# Altium footprint library Power_BJT_MOS_PcbLib.PcbLib: 24 footprints (part 1 of 2)
Each footprint in its own frame and in the unit in brackets; x right, y up, seen from the top. Pads: shape width x height; smd on the part's side, far side on the other; paste and mask are expansions set on the pad; w line width, h text height; cw(c..) or ccw(c..) is an arc to the next point about the centre after c.
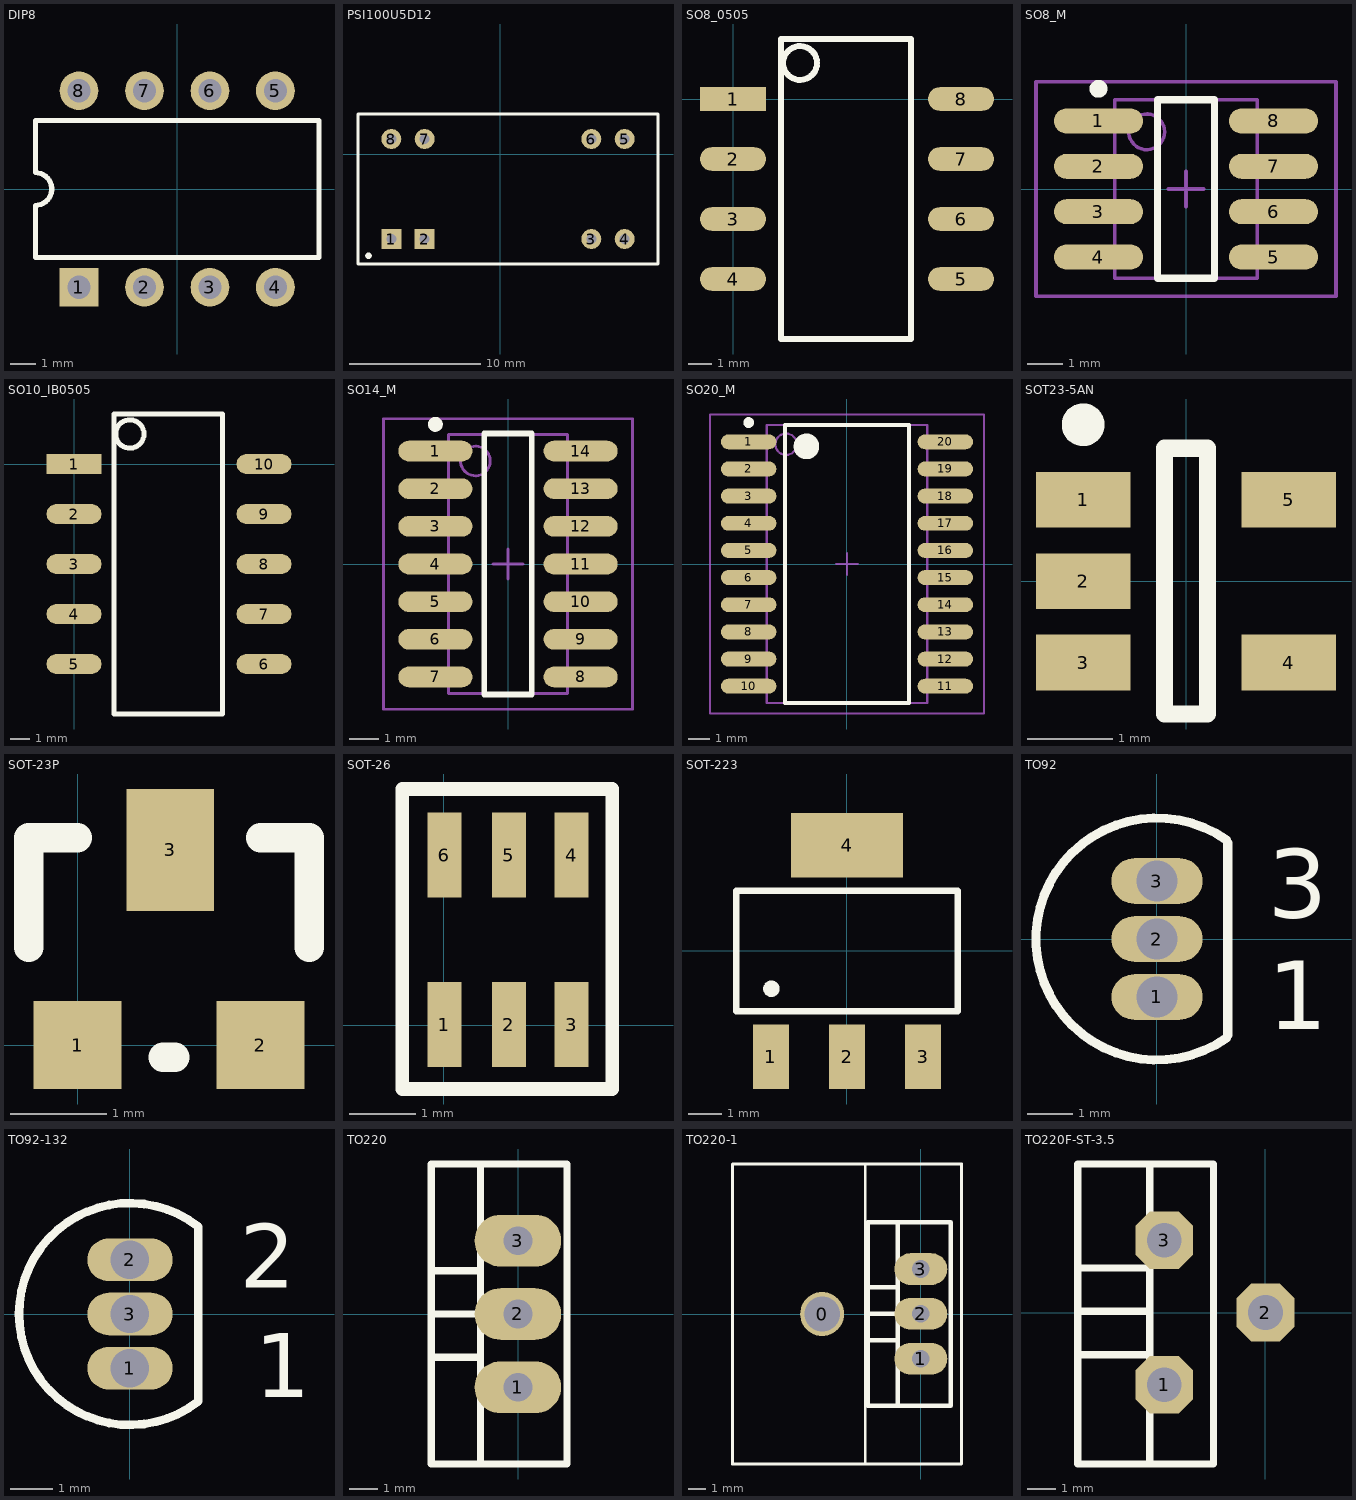
[diagram p0: the footprints below, top view; thin cyan lines are the x and y axes]

## DIP8 [mm] "DIP; 8 Leads; Row Spacing 7.62 mm; Pitch 2.54 mm"
height 5.08
pads (8):
  rect 1.5x1.5 hole 0.9: 1(-3.81,-3.81)
  round 1.5 hole 0.9: 2(-1.27,-3.81) 3(1.27,-3.81) 4(3.81,-3.81) 5(3.81,3.81) 6(1.27,3.81) 7(-1.27,3.81) 8(-3.81,3.81)
Top Overlay:
  lines w0.2: -5.5,-2.65 5.5,-2.65 5.5,2.65 -5.5,2.65 -5.5,0.635 cw(c-5.5,0) -5.5,-0.635 -5.5,-2.65

## PSI100U5D12 [mil]
pads (8):
  rect 60x60 hole 30: 1(-326.46,-254.66) 2(-226.46,-254.66)
  round 60 hole 30: 3(273.54,-254.66) 4(373.54,-254.66) 5(373.54,45.34) 6(273.54,45.34) 7(-226.46,45.34) 8(-326.46,45.34)
Top Overlay:
  circle w9.84: c-394.92,-305 r4.92
  lines w10: -426.46,-329.66 473.54,-329.66 473.54,120.34 -426.46,120.34 -426.46,-304.66 -426.46,-329.66

## SO8_0505 [mm]
pads (8):
  rect 2.8x1 smd: 1(0,0)
  oval 2.8x1 smd: 2(0,-2.54) 3(0,-5.08) 4(0,-7.62) 5(9.652,-7.62) 6(9.652,-5.08) 7(9.652,-2.54) 8(9.652,0)
Top Overlay:
  circle w0.254: c2.838,1.524 r0.718
  lines w0.254: 2.032,-10.16 7.532,-10.16 7.532,2.54 2.032,2.54 2.032,-10.16

## SO8_M [mm] "SOIC, 8-Leads, Body 4.9x3.9mm, Pitch 1.27mm, IPC Low Density"
height 1.75
pads (8):
  oval 2.5x0.7 smd: 1(-2.45,1.905) 2(-2.45,0.635) 3(-2.45,-0.635) 4(-2.45,-1.905) 5(2.45,-1.905) 6(2.45,-0.635) 7(2.45,0.635) 8(2.45,1.905)
Top Overlay:
  circle w0.25: c-2.45,2.805 r0.125
  lines w0.2: -0.8,-2.5 -0.8,2.5 0.8,2.5 0.8,-2.5 -0.8,-2.5
Mechanical 13:
  circle w0.1: c-1.1,1.6 r0.5
  lines w0.1: -2,-2.5 -2,2.5 2,2.5 2,-2.5 -2,-2.5
Mechanical 15:
  lines w0.1: -0.5,0 0.5,0 ; 0,-0.5 0,0.5 ; -4.2,-3 -4.2,3 4.2,3 4.2,-3 -4.2,-3
3D body: height 1.75, standoff 0, extent -2,-2.5 2,2.5

## SO10_IB0505 [mm]
pads (10):
  rect 2.8x1 smd: 1(0,0)
  oval 2.8x1 smd: 2(0,-2.54) 3(0,-5.08) 4(0,-7.62) 5(0,-10.16) 6(9.652,-10.16) 7(9.652,-7.62) 8(9.652,-5.08) 9(9.652,-2.54) 10(9.652,0)
Top Overlay:
  circle w0.254: c2.838,1.524 r0.718
  lines w0.254: 2.032,-12.7 7.532,-12.7 7.532,2.54 2.032,2.54 2.032,-12.7

## SO14_M [mm] "SOIC, 14-Leads, Body 8.7x3.9mm, Pitch 1.27mm, IPC Low Density"
height 1.75
pads (14):
  oval 2.5x0.7 smd: 1(-2.45,3.81) 2(-2.45,2.54) 3(-2.45,1.27) 4(-2.45,0) 5(-2.45,-1.27) 6(-2.45,-2.54) 7(-2.45,-3.81) 8(2.45,-3.81) 9(2.45,-2.54) 10(2.45,-1.27) 11(2.45,0) 12(2.45,1.27) 13(2.45,2.54) 14(2.45,3.81)
Top Overlay:
  circle w0.25: c-2.45,4.71 r0.125
  lines w0.2: -0.8,-4.4 -0.8,4.4 0.8,4.4 0.8,-4.4 -0.8,-4.4
Mechanical 13:
  circle w0.1: c-1.1,3.475 r0.5
  lines w0.1: -2,-4.375 -2,4.375 2,4.375 2,-4.375 -2,-4.375
Mechanical 15:
  lines w0.1: -0.5,0 0.5,0 ; 0,-0.5 0,0.5 ; -4.2,-4.9 -4.2,4.9 4.2,4.9 4.2,-4.9 -4.2,-4.9
3D body: height 1.75, standoff 0, extent -2,-4.375 2,4.375

## SO20_M [mm] "SOIC, 20-Leads, Body 12.8x7.5mm, Pitch 1.27mm, IPC Low Density"
height 2.65
pads (20):
  oval 2.6x0.7 smd: 1(-4.6,5.715) 2(-4.6,4.445) 3(-4.6,3.175) 4(-4.6,1.905) 5(-4.6,0.635) 6(-4.6,-0.635) 7(-4.6,-1.905) 8(-4.6,-3.175) 9(-4.6,-4.445) 10(-4.6,-5.715) 11(4.6,-5.715) 12(4.6,-4.445) 13(4.6,-3.175) 14(4.6,-1.905) 15(4.6,-0.635) 16(4.6,0.635) 17(4.6,1.905) 18(4.6,3.175) 19(4.6,4.445) 20(4.6,5.715)
Top Overlay:
  circle w0.25: c-4.6,6.615 r0.125
  circle w0.6: c-1.9,5.5 r0.3
  lines w0.2: -2.9,-6.5 -2.9,6.5 2.9,6.5 2.9,-6.5 -2.9,-6.5
Mechanical 13:
  circle w0.1: c-2.85,5.6 r0.5
  lines w0.1: -3.75,-6.5 -3.75,6.5 3.75,6.5 3.75,-6.5 -3.75,-6.5
Mechanical 15:
  lines w0.1: -0.5,0 0.5,0 ; 0,-0.5 0,0.5 ; -6.4,-7 -6.4,7 6.4,7 6.4,-7 -6.4,-7
3D body: height 2.65, standoff 0, extent -3.75,-6.5 3.75,6.5

## SOT23-5AN [mm]
pads (5):
  rect 1.1x0.65 smd: 1(-1.2,0.95) 2(-1.2,0) 3(-1.2,-0.95) 4(1.2,-0.95) 5(1.2,0.95)
Top Overlay:
  circle w0.25: c-1.2,1.825 r0.125
  lines w0.2: -0.25,-1.55 -0.25,1.55 0.25,1.55 0.25,-1.55 -0.25,-1.55

## SOT-23P [mil]
pads (3):
  rect 36x36 smd: 1(0,0) 2(75,0)
  rect 36x50 smd: 3(38,80)
Top Overlay:
  lines w12: -20,40 -20,85 0,85 ; 35,-5 40,-5 ; 75,85 95,85 95,40

## SOT-26 [mil]
pads (6):
  rect 20x50 smd: 1(0.41,0.41) 2(38.41,0.41) 3(75.41,0.41) 4(75.41,100.41) 5(38.41,100.41) 6(0.41,100.41)
Top Overlay:
  lines w8: -24.59,-37.59 99.41,-37.59 99.41,139.41 -24.59,139.41 -24.59,-37.59

## SOT-223 [mm]
pads (4):
  rect 1.1x1.95 smd: 1(-2.298,-3.201) 2(0.002,-3.201) 3(2.302,-3.201)
  rect 3.4x1.95 smd: 4(0.002,3.199)
Top Overlay:
  circle w0.25: c-2.284,-1.143 r0.125
  lines w0.2: -3.348,-1.826 -3.348,1.824 3.352,1.824 3.352,-1.826 -3.348,-1.826

## TO92 [mm] "TO, Flat Index; 3 In-Line, Axial Leads; Body Dia. 4.8mm; Leads 0.51 x 0.51 mm (max)"
height 5.33
pads (3):
  oval 2x1 hole 0.9: 1(0,-1.27) 2(0,0) 3(0,1.27)
Top Overlay:
  lines w0.2: 1.52,-2.171 cw(c0,0) 1.52,2.171 ; 1.55,-2.1 1.55,2.1
  text "3" at 2.421,0.467 h1.5
  text "1" at 2.421,-1.979 h1.5

## TO92-132 [mm] "TO, Flat Index; 3 In-Line, Axial Leads; Body Dia. 4.8mm; Leads 0.51 x 0.51 mm (max)"
height 5.33
pads (3):
  oval 2x1 hole 0.9: 1(0,-1.27) 2(0,1.27) 3(0,0)
Top Overlay:
  lines w0.2: 1.601,-2.049 cw(c0,0) 1.601,2.049 ; 1.6,-1.99 1.6,1.99
  text "1" at 2.93,-1.95 h1.5
  text "2" at 2.57,0.61 h1.5

## TO220 [mm]
pads (3):
  oval 3x1.8 hole 1: 1(-0.003,-2.532) 2(-0.003,0.008) 3(-0.003,2.548)
Top Overlay:
  lines w0.254: -3.003,-1.492 -1.353,-1.492 ; -3.003,0.008 -0.503,0.008 ; -3.003,1.508 -1.353,1.508 ; -1.303,-5.192 -1.303,5.208 ; -3.003,-5.192 1.697,-5.192 1.697,5.208 -3.003,5.208 -3.003,-5.192

## TO220-1 [mm]
pads (4):
  round 2.5 hole 2: 0(-5.6,0)
  oval 3x1.8 hole 1: 1(-0.003,-2.532) 2(-0.003,0.008) 3(-0.003,2.548)
Top Overlay:
  lines w0.152: -10.7,-8.5 2.3,-8.5 2.3,8.5 ; -10.682,-8.5 -10.682,8.5 2.318,8.5 ; -3.161,-8.5 -3.161,8.5
  lines w0.254: -3.003,-1.492 -1.353,-1.492 ; -3.003,0.008 -0.503,0.008 ; -3.003,1.508 -1.353,1.508 ; -1.303,-5.192 -1.303,5.208 ; -3.003,-5.192 -3.003,5.208 1.697,5.208 1.697,-5.192 -3.003,-5.192

## TO220F-ST-3.5 [mm]
pads (3):
  oct 2x2 hole 1.2: 1(-3.498,-2.488) 2(0.002,0.012) 3(-3.498,2.512)
Top Overlay:
  lines w0.254: -6.498,-1.448 -3.998,-1.448 ; -6.498,0.052 -3.998,0.052 ; -6.498,1.552 -3.998,1.552 ; -3.998,-5.228 -3.998,5.152 ; -6.498,-5.228 -6.498,5.152 -1.798,5.152 -1.798,-5.228 -6.498,-5.228